# EAGLE library part BBB_3X14_RA (library pixhawk2)
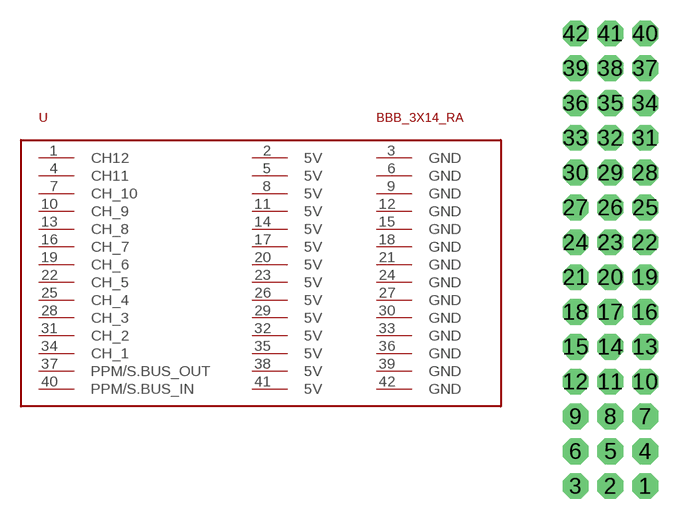
[diagram p97: symbol with the pads of 3X14RA; footprint 3X14RA]

Designator prefix -

## BBB_3X14_RA  [3X14RA]
1  CH12
2  5V
3  GND
4  CH11
5  5V
6  GND
7  CH_10
8  5V
9  GND
10  CH_9
11  5V
12  GND
13  CH_8
14  5V
15  GND
16  CH_7
17  5V
18  GND
19  CH_6
20  5V
21  GND
22  CH_5
23  5V
24  GND
25  CH_4
26  5V
27  GND
28  CH_3
29  5V
30  GND
31  CH_2
32  5V
33  GND
34  CH_1
35  5V
36  GND
37  PPM/S.BUS_OUT
38  5V
39  GND
40  PPM/S.BUS_IN
41  5V
42  GND

## Footprint 3X14RA (pad centres in mm)
drill 1.016 pad 1.88 octagon: 1 2.54,-16.51; 2 0,-16.51; 3 -2.54,-16.51; 4 2.54,-13.97; 5 0,-13.97; 6 -2.54,-13.97; 7 2.54,-11.43; 8 0,-11.43; 9 -2.54,-11.43; 10 2.54,-8.89; 11 0,-8.89; 12 -2.54,-8.89; 13 2.54,-6.35; 14 0,-6.35; 15 -2.54,-6.35; 16 2.54,-3.81; 17 0,-3.81; 18 -2.54,-3.81; 19 2.54,-1.27; 20 0,-1.27; 21 -2.54,-1.27; 22 2.54,1.27; 23 0,1.27; 24 -2.54,1.27; 25 2.54,3.81; 26 0,3.81; 27 -2.54,3.81; 28 2.54,6.35; 29 0,6.35; 30 -2.54,6.35; 31 2.54,8.89; 32 0,8.89; 33 -2.54,8.89; 34 2.54,11.43; 35 0,11.43; 36 -2.54,11.43; 37 2.54,13.97; 38 0,13.97; 39 -2.54,13.97; 40 2.54,16.51; 41 0,16.51; 42 -2.54,16.51